# Altium footprint library DriverBoardForCNC.PcbLib: 25 footprints (part 2 of 2)
Each footprint in its own frame and in the unit in brackets; x right, y up, seen from the top. Pads: shape width x height; smd on the part's side, far side on the other; paste and mask are expansions set on the pad; w line width, h text height; cw(c..) or ccw(c..) is an arc to the next point about the centre after c.
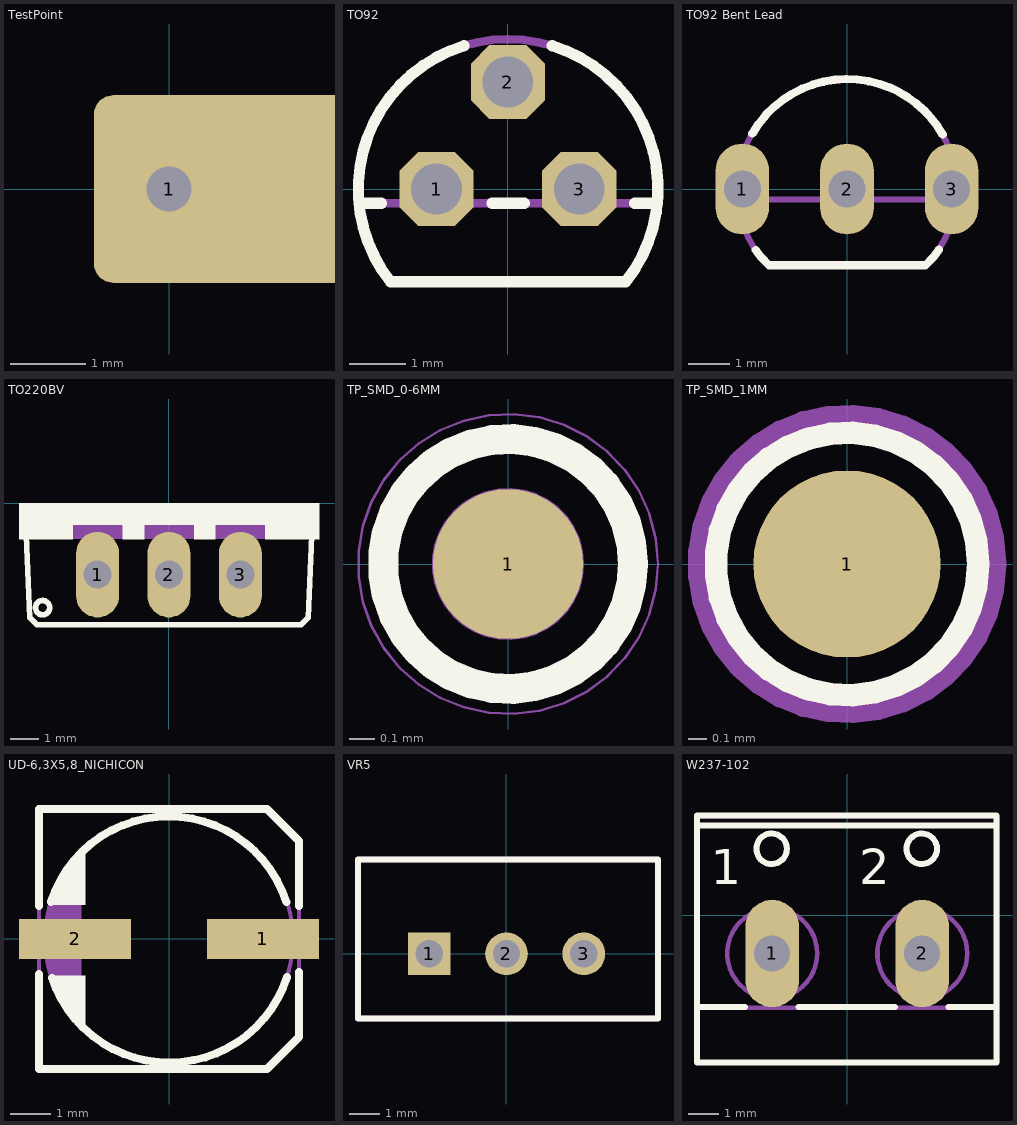
[diagram p1: the footprints below, top view; thin cyan lines are the x and y axes]

## TestPoint [mm]
pads (1):
  rrect20% 4x2.5 hole 0.6 copper offset 1,0: 1(0,0)

## TO92 [mil] "TO92"
pads (3):
  oct 52x52 / inner round 0 / far side oct 52x52 hole 35.43: 1(-50,0) 2(0,75) 3(50,0)
Top Overlay:
  lines w7.87: -104.33,-9.96 -88.54,-9.96 ; -30.78,100.37 ccw(c0.18,0.04) -82.28,-64.96 82.68,-64.96 ccw(c0.22,0.04) 31.18,100.37 ; -11.06,-9.96 11.46,-9.96 ; 88.94,-9.96 104.73,-9.96
M14-Top Assembly:
  lines w6: -104.53,-10 -88.74,-10 -11.26,-10 11.26,-10 88.74,-10 104.53,-10 ; -30.98,100.33 ccw(c-0.02,0) -82.48,-65 82.48,-65 ccw(c0.02,0) 30.98,100.33 ; -30.96,100.33 cw(c0,0) 30.96,100.33
3D body "TO-92_triangle_pin.x_b": height 322.83, standoff -118.11, extent -98.43,-55.36 99.33,116.39

## TO92 Bent Lead [mm] "TO92  Bent Lead"
pads (3):
  oval 1.3x2.2 hole 0.9: 1(-2.54,0) 2(0,0) 3(2.54,0)
Top Overlay:
  lines w0.2: -2.65,-0.253 -2.249,-0.253 ; -2.297,1.348 cw(c0.005,0.001) 0.787,2.551 ; -2.215,-1.477 ccw(c0.005,0.001) -2.09,-1.65 -1.89,-1.85 1.9,-1.85 2.1,-1.65 ccw(c0.006,0.001) 2.23,-1.47 ; -0.281,-0.253 0.291,-0.253 ; 0.792,2.549 cw(c0.006,0.001) 2.324,1.321 ; 2.259,-0.253 2.66,-0.253
M14-Top Assembly:
  lines w0.152: -2.655,-0.254 -2.254,-0.254 -0.286,-0.254 0.286,-0.254 2.254,-0.254 2.655,-0.254 ; -0.786,2.548 cw(c0,0) 0.786,2.548 ; 0.786,2.548 ccw(c0,0) -2.095,-1.651 -1.896,-1.85 1.896,-1.85 2.095,-1.651 ccw(c0,0) 0.787,2.548
3D body "TO-92_line_pin_2_5mm_pitch.x_t": height 8.2, standoff -3, extent -2.75,-1.85 2.75,2.512

## TO220BV [mil] "TO220BV"
pads (3):
  oval 60x120 / inner round 0 / far side oval 60x120 hole 39.37: 1(-100,-100) 2(0,-100) 3(100,-100)
Top Overlay:
  circle w7.87: c-176.96,-146.28 r10
  region: -209.96,-30.28 -209.96,-0.28 210.04,-0.28 210.04,-30.28
  region: 135.04,-50.28 135.04,-30.28 210.04,-30.28 210.04,-50.28
  region: -209.96,-50.28 -209.96,-30.28 -134.96,-30.28 -134.96,-50.28
  region: -64.96,-50.28 -64.96,-30.28 -34.96,-30.28 -34.96,-50.28
  region: 35.04,-50.28 35.04,-30.28 65.04,-30.28 65.04,-50.28
  lines w7.87: -199.96,-45.28 -194.96,-160.28 -184.96,-170.28 185.04,-170.28 195.04,-160.28 200.04,-45.28
M14-Top Assembly:
  circle w5.91: c-177,-146 r10
  region: -210,-50 -210,-30 -135,-30 -135,-50
  region: -210,-30 -210,0 210,0 210,-30
  region: 135,-50 135,-30 210,-30 210,-50
  region: -135,-50 -135,-30 -65,-30 -65,-50
  region: -65,-50 -65,-30 -35,-30 -35,-50
  region: 65,-50 65,-30 135,-30 135,-50
  region: 35,-50 35,-30 65,-30 65,-50
  region: -35,-50 -35,-30 35,-30 35,-50
  lines w6: -200,-45 -195,-160 -185,-170 185,-170 195,-160 200,-45
3D body "TO-220HS.x_b": height 730, standoff -150, extent -199.99,-154.99 200.01,25

## TP_SMD_0-6MM [mm]
pads (1):
  round 0.6 smd paste-10 mask+0.05: 1(0,0)
Top Overlay:
  circle w0.12: c0,0 r0.5
M14-Top Assembly:
  circle w0.01: c0,0 r0.3
  text "'.Designator'" at -2,-0.5 h0.75
M16-Top Courtyard:
  circle w0.01: c0,0 r0.6

## TP_SMD_1MM [mm]
pads (1):
  round 1 smd paste-10 mask+0.05: 1(0,0)
Top Overlay:
  circle w0.12: c0,0 r0.7
M7-Top Info:
  lines w0.1: -0.25,0 0.25,0 ; 0,-0.25 0,0.25
M14-Top Assembly:
  circle w0.1: c0,0 r0.8
M16-Top Courtyard:
  circle w0.01: c0,0 r0.8

## UD-6,3X5,8_NICHICON [mm] "UD-6,3X5,8_NICHICON"
pads (2):
  rect 2.8x1 smd: 1(2.35,0) 2(-2.35,0)
Top Overlay:
  region: -2.1,2.314 -2.1,0.85 -2.884,0.85 -2.953,0.919
  region: -2.1,-0.919 -2.1,-2.325 -2.325,-2.069 -2.95,-0.919
  lines w0.2: -3.25,-0.875 -3.25,-1.625 -3.25,-3.25 2.45,-3.25 3.25,-2.45 3.25,-0.825 ; -3.25,0.825 -3.25,1.625 -3.25,3.25 2.45,3.25 3.25,2.45 3.25,0.825 ; -2.953,0.919 cw(c-0.01,-0.025) 2.933,0.921 ; -2.923,-0.977 ccw(c0.01,0) 2.953,-0.944
M8-Bottom Info:
  lines w0.102: -3.25,-0.7 -3.25,-3.25 2.45,-3.25 3.25,-2.45 ; -3.25,0.8 -3.25,3.25 2.45,3.25 3.25,2.45 ; -3,0.775 cw(c-0.002,0.005) 2.975,0.85 ; -2.975,-0.85 ccw(c0.002,-0.005) 3,-0.775
M14-Top Assembly:
  circle w0.102: c0,0 r3.1
  region: -2.2,2.15 -2.339,2.008 -2.577,1.69 -2.773,1.345 -2.923,0.977 -3.024,0.593 -3.075,0.199 -3.075,-0.199 -3.024,-0.593 -2.923,-0.977 -2.773,-1.345 -2.577,-1.69 -2.339,-2.008 -2.2,-2.15
  lines w0.102: -3.25,-3.25 -3.25,3.25 2.45,3.25 3.25,2.45 3.25,-2.45 2.45,-3.25 -3.25,-3.25
3D body "L6.3 SIZE CODE C55.x_b": height 5.41, standoff 0.01, extent -3.675,-3.3 3.625,3.3

## VR5 [mm] "Thru-Hole; 3 Leads"
pads (3):
  rect 1.4x1.4 hole 0.9: 1(-2.54,0)
  round 1.4 hole 0.9: 2(0,0) 3(2.54,0)
Top Overlay:
  lines w0.2: -4.875,-2.125 4.975,-2.125 4.975,0.105 4.975,3.1 -4.875,3.1 -4.875,-2.125
M14-Top Assembly:
  lines w0.2: -4.875,-2.125 -4.875,3.1 4.975,3.1 4.975,0.105 4.975,-2.125 -4.875,-2.125
3D body "Trimmer 3296.x_t": height 11.61, standoff -2.74, extent -4.75,-2 4.85,3

## W237-102 [mil] "W237-102"
pads (2):
  oval 70.5x141 / inner round 0 / far side oval 70.5x141 hole 47.24: 1(-98.43,-50) 2(98.43,-50)
Top Overlay:
  circle w7.87: c-99.13,87.43 r20
  circle w7.87: c97.87,87.43 r20
  lines w7.87: -197.12,129.92 -197.12,-120.55 ; -134.13,-120.55 -197.12,-120.55 ; -64.13,-120.55 62.88,-120.55 ; 132.88,-120.55 195.87,-120.55 ; 195.87,129.92 195.87,-120.55 ; -197.12,-120.55 -197.12,-192.91 195.87,-192.91 195.87,-120.55 ; -197.12,118.11 -197.12,130.91 195.87,130.91 195.87,118.11 -197.12,118.11
  text "1" at -179.13,25.43 h78.74
  text "2" at 15.87,25.43 h78.74
M14-Top Assembly:
  circle w6: c98.57,87 r20
  circle w6: c-98.43,87 r20
  circle w6: c-98.43,-50 r59
  circle w6: c98.57,-50 r59
  lines w6: -196.42,-120.98 -196.42,118.11 ; -196.42,-120.98 -133.43,-120.98 -63.43,-120.98 63.58,-120.98 133.58,-120.98 196.57,-120.98 ; -196.42,-120.98 -196.42,-192.91 196.57,-192.91 196.57,-120.98 ; -196.42,118.11 -196.42,129.92 196.57,129.92 ; -196.42,118.11 196.57,118.11 196.57,129.92 ; 196.57,-120.98 196.57,129.92
  text "1" at -178.43,25 h77.5
  text "2" at 16.57,25 h77.5
3D body "W237-102.x_b": height 409.21, standoff -156.98, extent -208.66,-187.01 200.79,120.08